# Altium footprint library Oscillator_Fox_FXO-HC736R-33.PcbLib: 1 footprints
Each footprint in its own frame and in the unit in brackets; x right, y up, seen from the top. Pads: shape width x height; smd on the part's side, far side on the other; paste and mask are expansions set on the pad; w line width, h text height; cw(c..) or ccw(c..) is an arc to the next point about the centre after c.
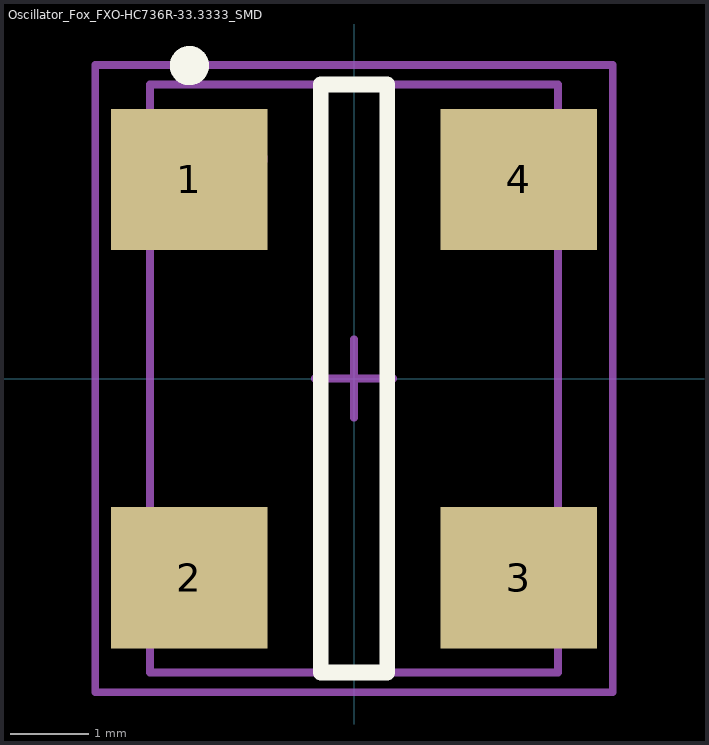
[diagram p0: the footprint, top view; thin cyan lines are the x and y axes]

## Oscillator_Fox_FXO-HC736R-33.3333_SMD [mm]
height 1.4
pads (4):
  rect 2x1.8 smd: 1(-2.1,2.54) 2(-2.1,-2.54) 3(2.1,-2.54) 4(2.1,2.54)
Top Overlay:
  circle w0.25: c-2.1,3.99 r0.125
  lines w0.2: -0.425,-3.75 0.425,-3.75 0.425,3.75 -0.425,3.75 -0.425,-3.75
Mechanical 13:
  circle w0.1: c-1.65,2.8 r0.5
  lines w0.1: -2.6,-3.75 2.6,-3.75 2.6,3.75 -2.6,3.75 -2.6,-3.75
Mechanical 15:
  lines w0.1: -0.5,0 0.5,0 ; 0,-0.5 0,0.5 ; -3.3,-4 3.3,-4 3.3,4 -3.3,4 -3.3,-4
3D body: height 1.4, standoff 0.2, extent -2.6,-3.75 2.6,3.75